# EAGLE library part XC95144XL-100 (library pixel)
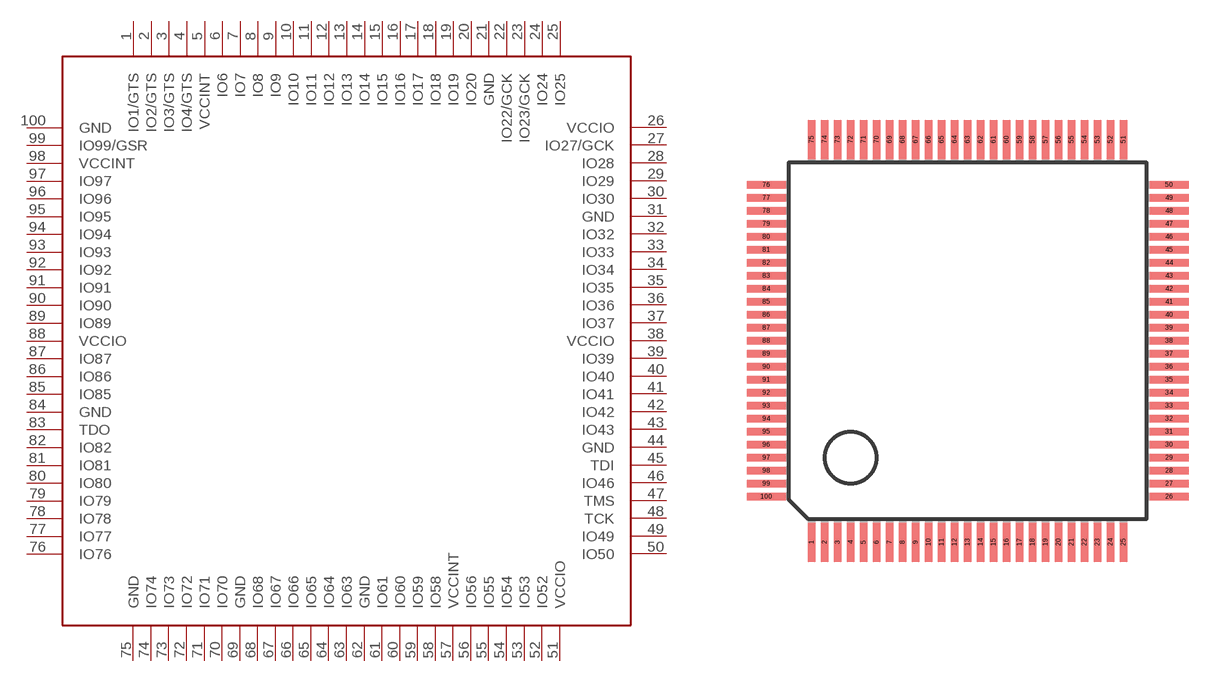
[diagram p23: symbol with the pads of TQFP100; footprint TQFP100]

Designator prefix -

## XC95144XL-100  [TQFP100]
1  IO1/GTS
2  IO2/GTS
3  IO3/GTS
4  IO4/GTS
5  VCCINT
6  IO6
7  IO7
8  IO8
9  IO9
10  IO10
11  IO11
12  IO12
13  IO13
14  IO14
15  IO15
16  IO16
17  IO17
18  IO18
19  IO19
20  IO20
21  GND
22  IO22/GCK
23  IO23/GCK
24  IO24
25  IO25
26  VCCIO
27  IO27/GCK
28  IO28
29  IO29
30  IO30
31  GND
32  IO32
33  IO33
34  IO34
35  IO35
36  IO36
37  IO37
38  VCCIO
39  IO39
40  IO40
41  IO41
42  IO42
43  IO43
44  GND
45  TDI
46  IO46
47  TMS
48  TCK
49  IO49
50  IO50
51  VCCIO
52  IO52
53  IO53
54  IO54
55  IO55
56  IO56
57  VCCINT
58  IO58
59  IO59
60  IO60
61  IO61
62  GND
63  IO63
64  IO64
65  IO65
66  IO66
67  IO67
68  IO68
69  GND
70  IO70
71  IO71
72  IO72
73  IO73
74  IO74
75  GND
76  IO76
77  IO77
78  IO78
79  IO79
80  IO80
81  IO81
82  IO82
83  TDO
84  GND
85  IO85
86  IO86
87  IO87
88  VCCIO
89  IO89
90  IO90
91  IO91
92  IO92
93  IO93
94  IO94
95  IO95
96  IO96
97  IO97
98  VCCINT
99  IO99/GSR
100  GND

## Footprint TQFP100 (pad centres in mm)
Thin Quad Flat Pack
smd 0.27 x 1.5: 1 -6,-7.75; 2 -5.5,-7.75; 3 -5,-7.75; 4 -4.5,-7.75; 5 -4,-7.75; 6 -3.5,-7.75; 7 -3,-7.75; 8 -2.5,-7.75; 9 -2,-7.75; 10 -1.5,-7.75; 11 -1,-7.75; 12 -0.5,-7.75; 13 0,-7.75; 14 0.5,-7.75; 15 1,-7.75; 16 1.5,-7.75; 17 2,-7.75; 18 2.5,-7.75; 19 3,-7.75; 20 3.5,-7.75; 21 4,-7.75; 22 4.5,-7.75; 23 5,-7.75; 24 5.5,-7.75; 25 6,-7.75; 51 6,7.75; 52 5.5,7.75; 53 5,7.75; 54 4.5,7.75; 55 4,7.75; 56 3.5,7.75; 57 3,7.75; 58 2.5,7.75; 59 2,7.75; 60 1.5,7.75; 61 1,7.75; 62 0.5,7.75; 63 0,7.75; 64 -0.5,7.75; 65 -1,7.75; 66 -1.5,7.75; 67 -2,7.75; 68 -2.5,7.75; 69 -3,7.75; 70 -3.5,7.75; 71 -4,7.75; 72 -4.5,7.75; 73 -5,7.75; 74 -5.5,7.75; 75 -6,7.75
smd 1.5 x 0.27: 26 7.75,-6; 27 7.75,-5.5; 28 7.75,-5; 29 7.75,-4.5; 30 7.75,-4; 31 7.75,-3.5; 32 7.75,-3; 33 7.75,-2.5; 34 7.75,-2; 35 7.75,-1.5; 36 7.75,-1; 37 7.75,-0.5; 38 7.75,0; 39 7.75,0.5; 40 7.75,1; 41 7.75,1.5; 42 7.75,2; 43 7.75,2.5; 44 7.75,3; 45 7.75,3.5; 46 7.75,4; 47 7.75,4.5; 48 7.75,5; 49 7.75,5.5; 50 7.75,6; 76 -7.75,6; 77 -7.75,5.5; 78 -7.75,5; 79 -7.75,4.5; 80 -7.75,4; 81 -7.75,3.5; 82 -7.75,3; 83 -7.75,2.5; 84 -7.75,2; 85 -7.75,1.5; 86 -7.75,1; 87 -7.75,0.5; 88 -7.75,0; 89 -7.75,-0.5; 90 -7.75,-1; 91 -7.75,-1.5; 92 -7.75,-2; 93 -7.75,-2.5; 94 -7.75,-3; 95 -7.75,-3.5; 96 -7.75,-4; 97 -7.75,-4.5; 98 -7.75,-5; 99 -7.75,-5.5; 100 -7.75,-6